# Altium footprint library DemoSchlib.PcbLib: 59 footprints (part 3 of 4)
Each footprint in its own frame and in the unit in brackets; x right, y up, seen from the top. Pads: shape width x height; smd on the part's side, far side on the other; paste and mask are expansions set on the pad; w line width, h text height; cw(c..) or ccw(c..) is an arc to the next point about the centre after c.
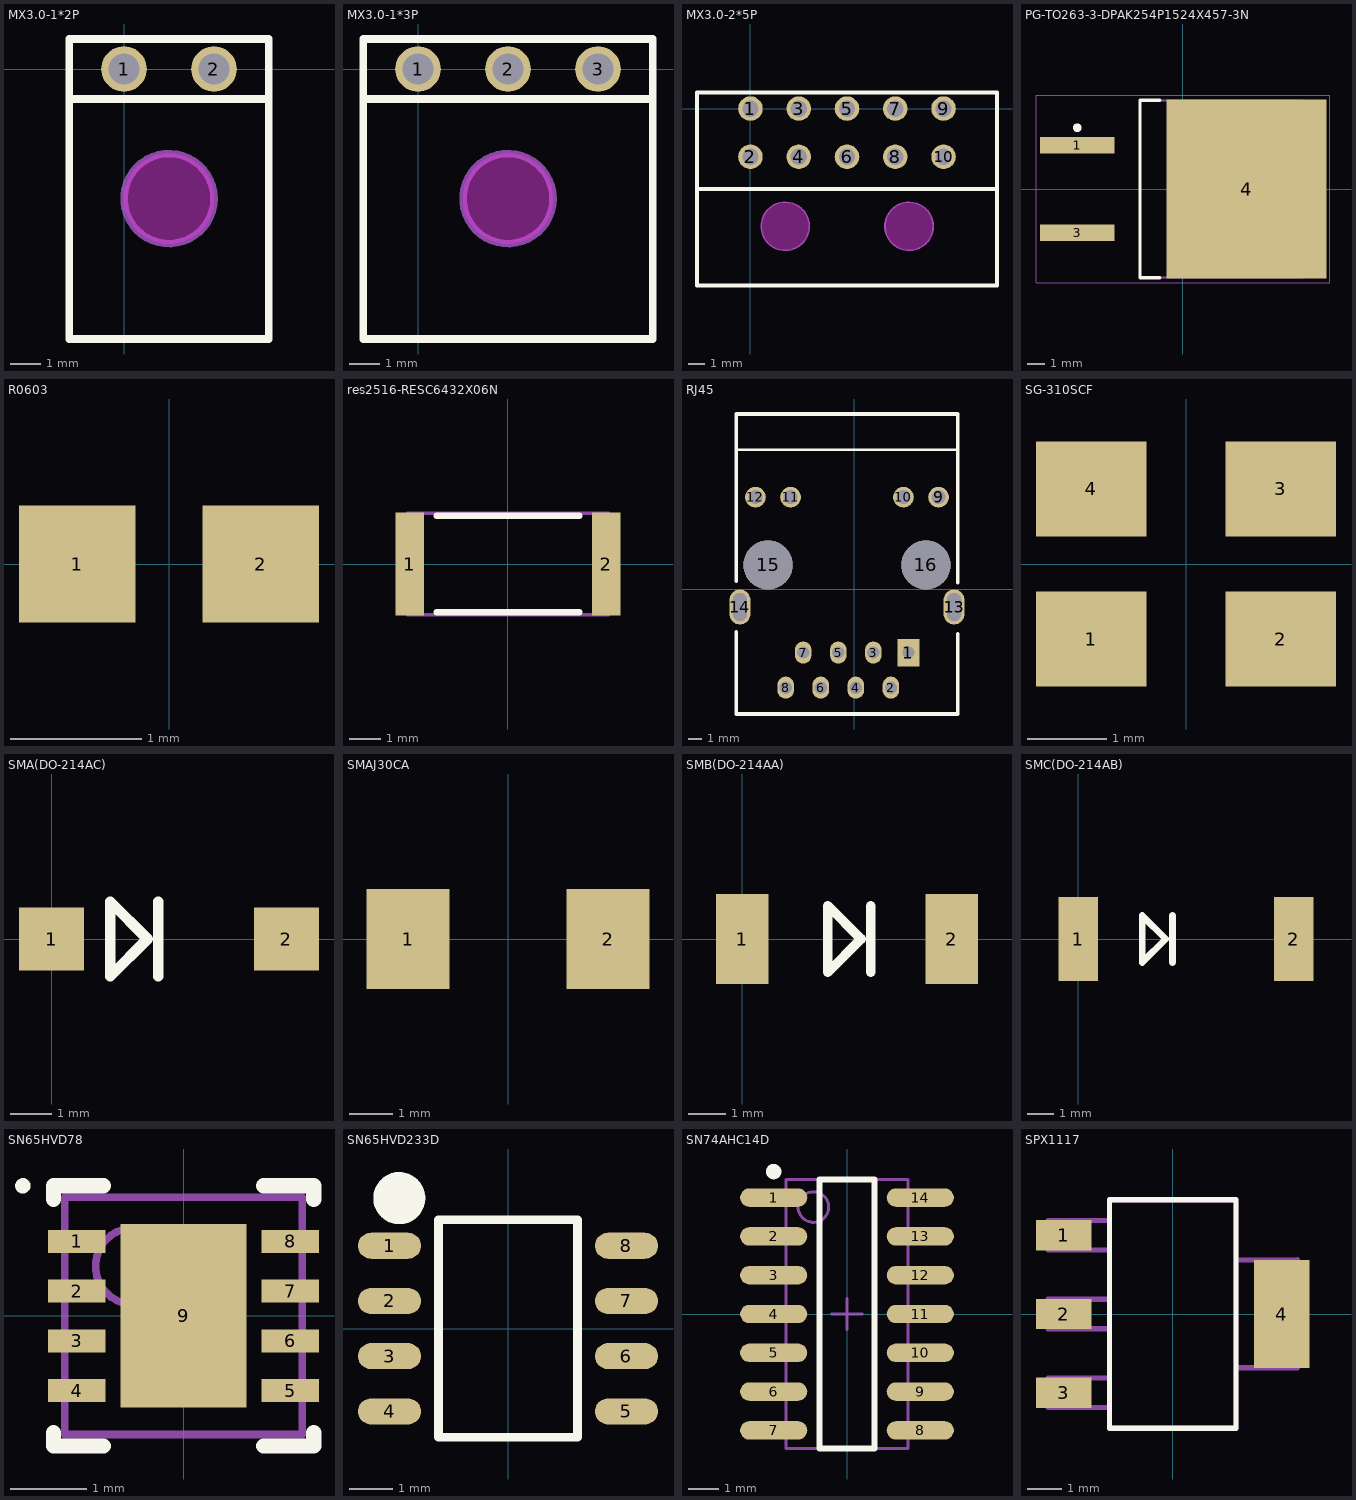
[diagram p2: the footprints below, top view; thin cyan lines are the x and y axes]

## MX3.0-1*2P [mil]
pads (2):
  round 60 hole 40.16: 1(0,0) 2(118.11,0)
Top Overlay:
  lines w10: -71.85,-39.37 189.96,-39.37 ; -71.85,-354.33 189.96,-354.33 189.96,39.37 59.06,39.37 -71.85,39.37 -71.85,-354.33
Keep-Out Layer:
  board cut-out: 0,-170.08 0,-175.9 2.27,-187.3 6.72,-198.05 13.18,-207.72 21.41,-215.95 31.08,-222.41 41.83,-226.86 53.24,-229.13 59.05,-229.13 64.87,-229.13 76.28,-226.86 87.03,-222.41 96.7,-215.95 104.93,-207.72 111.39,-198.05 115.84,-187.3 118.11,-175.9 118.11,-170.08 118.11,-164.26 115.84,-152.85 111.39,-142.11 104.93,-132.43 96.7,-124.21 87.03,-117.74 76.28,-113.29 64.87,-111.02 59.06,-111.02 53.24,-111.02 41.83,-113.29 31.08,-117.74 21.41,-124.21 13.18,-132.43 6.72,-142.11 2.27,-152.85 0,-164.26
Mechanical 1:
  circle w10: c59.06,-170.08 r59.06

## MX3.0-1*3P [mil]
pads (3):
  round 60 hole 40.16: 1(0,0) 2(118.11,0) 3(236.22,0)
Top Overlay:
  lines w10: -71.85,-39.37 308.07,-39.37 ; -71.85,-354.33 -71.85,39.37 118.11,39.37 308.07,39.37 308.07,-354.33 189.96,-354.33 -71.85,-354.33
Keep-Out Layer:
  board cut-out: 59.06,-170.08 59.06,-175.9 61.32,-187.3 65.78,-198.05 72.24,-207.72 80.46,-215.95 90.14,-222.41 100.88,-226.86 112.29,-229.13 118.11,-229.13 123.93,-229.13 135.34,-226.86 146.08,-222.41 155.76,-215.95 163.98,-207.72 170.44,-198.05 174.9,-187.3 177.17,-175.9 177.17,-170.08 177.17,-164.26 174.9,-152.85 170.44,-142.11 163.98,-132.43 155.76,-124.21 146.08,-117.74 135.34,-113.29 123.93,-111.02 118.11,-111.02 112.29,-111.02 100.88,-113.29 90.14,-117.74 80.46,-124.21 72.24,-132.43 65.78,-142.11 61.32,-152.85 59.06,-164.26
Mechanical 1:
  circle w10: c118.11,-170.08 r59.06

## MX3.0-2*5P [mm]
pads (10):
  round 1.524 hole 1.02: 1(0,0) 2(0,-3) 3(3,0) 4(3,-3) 5(6,0) 6(6,-3) 7(9,0) 8(9,-3) 9(12,0) 10(12,-3)
Top Overlay:
  lines w0.254: -3.325,-5 15.325,-5 ; -3.325,-11 -3.325,1 15.325,1 15.325,-11 -3.325,-11
Keep-Out Layer:
  board cut-out: 8.36,-7.32 8.36,-7.468 8.418,-7.758 8.531,-8.031 8.695,-8.276 8.904,-8.485 9.149,-8.649 9.422,-8.762 9.712,-8.82 9.86,-8.82 10.008,-8.82 10.298,-8.762 10.571,-8.649 10.816,-8.485 11.025,-8.276 11.189,-8.031 11.302,-7.758 11.36,-7.468 11.36,-7.32 11.36,-7.172 11.302,-6.882 11.189,-6.609 11.025,-6.364 10.816,-6.155 10.571,-5.991 10.298,-5.878 10.008,-5.82 9.86,-5.82 9.712,-5.82 9.422,-5.878 9.149,-5.991 8.904,-6.155 8.695,-6.364 8.531,-6.609 8.418,-6.882 8.36,-7.172
  board cut-out: 0.66,-7.32 0.66,-7.468 0.718,-7.758 0.831,-8.031 0.995,-8.276 1.204,-8.485 1.449,-8.649 1.722,-8.762 2.012,-8.82 2.16,-8.82 2.308,-8.82 2.598,-8.762 2.871,-8.649 3.116,-8.485 3.325,-8.276 3.489,-8.031 3.602,-7.758 3.66,-7.468 3.66,-7.32 3.66,-7.172 3.602,-6.882 3.489,-6.609 3.325,-6.364 3.116,-6.155 2.871,-5.991 2.598,-5.878 2.308,-5.82 2.16,-5.82 2.012,-5.82 1.722,-5.878 1.449,-5.991 1.204,-6.155 0.995,-6.364 0.831,-6.609 0.718,-6.882 0.66,-7.172
Mechanical 1:
  circle w0.1: c9.86,-7.32 r1.5
  circle w0.1: c2.16,-7.32 r1.5

## PG-TO263-3-DPAK254P1524X457-3N [mm]
pads (3):
  rect 4.35x0.95 smd: 1(-6.15,2.54) 3(-6.15,-2.54)
  rect 9.3x10.4 smd: 4(3.7,0)
Top Overlay:
  circle w0.25: c-6.15,3.565 r0.125
  lines w0.2: -1.35,-5.15 -2.5,-5.15 -2.5,5.15 -1.35,5.15
Mechanical 13:
  lines w0.1: -2.5,-5.15 6.95,-5.15 6.95,5.15 -2.5,5.15 -2.5,-5.15
Mechanical 15:
  lines w0.05: -8.55,-5.45 8.55,-5.45 8.55,5.45 -8.55,5.45 -8.55,-5.45
  lines w0.1: -0.5,0 0.5,0 ; 0,-0.5 0,0.5
3D body "DPAK254P1524X457-3N.step": height 4.57, standoff 0, extent -6.99,-5.15 8.25,5.15

## R0603 [mil]
pads (2):
  rect 35x35 smd: 1(-27.5,0) 2(27.5,0)
3D body "res0603.stp": height 17.71, standoff 0, extent -30.51,-16.47 30.51,17

## res2516-RESC6432X06N [mm]
pads (2):
  rect 0.9x3.25 smd: 1(-3.1,0) 2(3.1,0)
Top Overlay:
  lines w0.2: -2.25,-1.525 2.25,-1.525 ; -2.25,1.525 2.25,1.525
Mechanical 13:
  lines w0.1: -3.175,-1.6 -3.175,1.6 3.175,1.6 3.175,-1.6 -3.175,-1.6
3D body "RESC6432X06N.step": height 0.65, standoff 0, extent -3.175,-1.6 3.175,1.6

## RJ45 [mm]
pads (16):
  rect 1.6x2 hole 0.89: 1(3.942,-4.572)
  oval 1.2x1.6 hole 0.89: 2(2.672,-7.112) 3(1.402,-4.572) 4(0.132,-7.112) 5(-1.138,-4.572) 6(-2.408,-7.112) 7(-3.678,-4.572) 8(-4.948,-7.112)
  round 1.5 hole 1.02: 9(6.117,6.678) 10(3.577,6.678) 11(-4.593,6.678) 12(-7.133,6.678)
  oval 1.524x2.54 hole 1.016 slot 2.032 at 90 deg: 13(7.242,-1.272) 14(-8.258,-1.272)
  round 3.556 hole 3.556: 15(-6.223,1.778) 16(5.207,1.778)
Top Overlay:
  lines w0.2: -8.508,10.103 7.492,10.103
  lines w0.254: -8.508,-3.069 -8.508,-9.017 7.492,-9.017 7.492,-3.2 ; -8.508,0.575 -8.508,12.698 7.492,12.698 7.492,0.481
3D body "HR911105A.step": height 13.5, standoff -3, extent -8.455,-8.625 7.425,12.775

## SG-310SCF [mm] "3225"
pads (4):
  rect 1.4x1.2 smd: 1(-1.2,-0.95) 2(1.2,-0.95) 3(1.2,0.95) 4(-1.2,0.95)
3D body "SX3225.step": height 0.81, standoff 0, extent -1.6,-1.25 1.6,1.25

## SMA(DO-214AC) [mm]
pads (2):
  rect 1.55x1.5 smd: 1(0,0) 2(5.6,0)
Top Overlay:
  lines w0.254: 2.54,-0.889 2.54,0 2.54,0.889 ; 1.397,-0.889 2.286,0 1.397,0.889 1.397,-0.889
3D body "DO-214AC SMA.STEP": height 2.4, standoff 0, extent 0.143,-1.325 5.343,1.275

## SMAJ30CA [mil]
pads (2):
  rect 75x90 smd: 1(-90,0) 2(90,0)
3D body "DO-214AC SMA.step": height 94.47, standoff -0.12, extent -102.36,-51.17 102.36,51.19

## SMB(DO-214AA) [mm]
pads (2):
  rect 1.4x2.4 smd: 1(0,0) 2(5.6,0)
Top Overlay:
  lines w0.254: 3.429,-0.889 3.429,0 3.429,0.889 ; 2.286,-0.889 2.286,0.889 3.175,0 2.286,-0.889
3D body "DO-214AA.STEP": height 2.5, standoff 0, extent -0.006,-2.077 5.594,1.823

## SMC(DO-214AB) [mm]
pads (2):
  rect 1.49x3.17 smd: 1(0,0) 2(8.13,0)
Top Overlay:
  lines w0.254: 3.556,-0.889 3.556,0 3.556,0.889 ; 2.413,-0.889 3.302,0 2.413,0.889 2.413,-0.889
3D body "DO-214AB SMC.STEP": height 2.3, standoff 0, extent -0.038,-2.921 7.912,2.979

## SN65HVD78 [mm] "485"
height 1
pads (9):
  rect 0.75x0.3 smd: 1(-1.395,0.975) 2(-1.395,0.325) 3(-1.395,-0.325) 4(-1.395,-0.975) 5(1.395,-0.975) 6(1.395,-0.325) 7(1.395,0.325) 8(1.395,0.975)
  rect 1.65x2.4 smd: 9(0,0)
Top Overlay:
  circle w0.1: c-2.1,1.7 r0.05
  lines w0.2: -1.7,-1.525 -1.7,-1.7 -1.045,-1.7 ; -1.7,1.525 -1.7,1.7 -1.045,1.7 ; 1.045,-1.7 1.7,-1.7 1.7,-1.525 ; 1.045,1.7 1.7,1.7 1.7,1.525
Mechanical 13:
  circle w0.1: c-0.65,0.65 r0.5
  lines w0.1: -1.55,-1.55 -1.55,1.55 1.55,1.55 1.55,-1.55 -1.55,-1.55
3D body "SN65HVD78.stp": height 0.77, standoff 0, extent -1.5,-1.5 1.5,1.5

## SN65HVD233D [mm] "SOIC, 8-Leads, Body 4.91x3.90mm, Pitch 1.27mm, IPC Medium Density"
height 1.75
pads (8):
  oval 1.45x0.6 smd: 1(-2.725,1.905) 2(-2.725,0.635) 3(-2.725,-0.635) 4(-2.725,-1.905) 5(2.725,-1.905) 6(2.725,-0.635) 7(2.725,0.635) 8(2.725,1.905)
Top Overlay:
  circle w0.6: c-2.5,3 r0.3
  lines w0.2: -1.6,-2.5 1.6,-2.5 1.6,2.5 -1.6,2.5 -1.6,-2.5
3D body "THVD2450.step": height 1.75, standoff 0, extent -2.997,-2.5 2.997,2.5

## SN74AHC14D [mm] "SOIC, 14-Leads, Body 8.65x3.90mm, Pitch 1.27mm, IPC Medium Density"
height 1.75
pads (14):
  oval 2.2x0.6 smd: 1(-2.4,3.81) 2(-2.4,2.54) 3(-2.4,1.27) 4(-2.4,0) 5(-2.4,-1.27) 6(-2.4,-2.54) 7(-2.4,-3.81) 8(2.4,-3.81) 9(2.4,-2.54) 10(2.4,-1.27) 11(2.4,0) 12(2.4,1.27) 13(2.4,2.54) 14(2.4,3.81)
Top Overlay:
  circle w0.25: c-2.4,4.66 r0.125
  lines w0.2: -0.9,-4.4 -0.9,4.4 0.9,4.4 0.9,-4.4 -0.9,-4.4
Mechanical 13:
  circle w0.1: c-1.1,3.5 r0.5
  lines w0.1: -2,-4.4 -2,4.4 2,4.4 2,-4.4 -2,-4.4
Mechanical 15:
  lines w0.1: -0.5,0 0.5,0 ; 0,-0.5 0,0.5
3D body: height 1.75, standoff 0.1, extent -2,-4.4 2,4.4

## SPX1117 [mil]
pads (4):
  rect 64x35 smd: 1(-126,91) 2(-126,0) 3(-126,-91)
  rect 64x125 smd: 4(126,0)
Top Overlay:
  lines w6: -73,-132 -73,132 73,132 73,-132 -73,-132
Mechanical 4:
  lines w6: -144,-108 -73,-108 ; -144,-108 -144,-74 ; -144,-108 -73,-108 ; -144,-108 -144,-74 ; -144,-74 -73,-74 ; -144,-74 -73,-74 ; -144,-17 -73,-17 ; -144,-17 -144,17 ; -144,-17 -73,-17 ; -144,-17 -144,17 ; -144,17 -73,17 ; -144,17 -73,17 ; -144,74 -73,74 ; -144,74 -144,108 ; -144,74 -73,74 ; -144,74 -144,108 ; -144,108 -73,108 ; -144,108 -73,108 ; -73,-132 -73,132 ; -73,-132 73,-132 ; -73,-132 -73,132 ; -73,-132 73,-132 ; -73,-108 -73,-74 ; -73,-108 -73,-74 ; -73,-17 -73,17 ; -73,-17 -73,17 ; -73,74 -73,108 ; -73,74 -73,108 ; -73,132 73,132 ; -73,132 73,132 ; 73,-132 73,132 ; 73,-132 73,132 ; 73,-62 144,-62 ; 73,-62 73,62 ; 73,-62 144,-62 ; 73,-62 73,62 ; 73,62 144,63 ; 73,62 144,63 ; 144,-62 144,63 ; 144,-62 144,63
3D body "1117.step": height 70.87, standoff -2.41, extent -137.79,-128.05 137.8,128.05